# Altium footprint library PcbLib1.PcbLib: 24 footprints (part 2 of 2)
Each footprint in its own frame and in the unit in brackets; x right, y up, seen from the top. Pads: shape width x height; smd on the part's side, far side on the other; paste and mask are expansions set on the pad; w line width, h text height; cw(c..) or ccw(c..) is an arc to the next point about the centre after c.
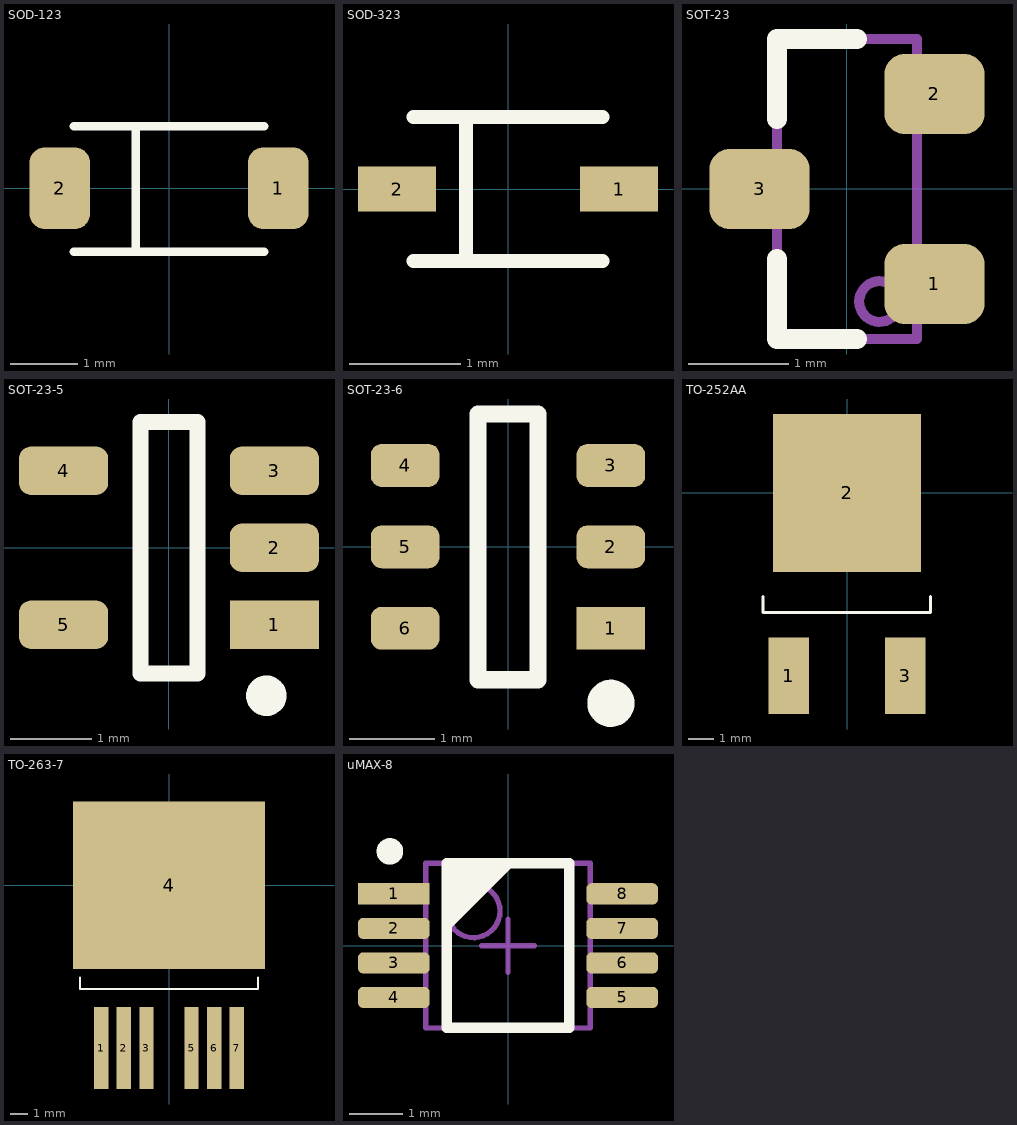
[diagram p1: the footprints below, top view; thin cyan lines are the x and y axes]

## SOD-123 [mm]
pads (2):
  rrect50% 0.91x1.22 smd mask+0.05: 1(1.635,0) 2(-1.635,0)
Top Overlay:
  lines w0.127: -1.425,-0.95 1.425,-0.95 ; -1.425,0.925 1.425,0.925 ; -0.5,-0.925 -0.5,0.9
3D body "MMSZ5226B-7-F--3DModel-STEP-1.STEP": height 1.44, standoff -0.01, extent -1.85,-0.775 1.85,0.775

## SOD-323 [mm]
height 1.1
pads (2):
  rect 0.701x0.403 smd mask+0.05: 1(1,0)
  rect 0.703x0.401 smd mask+0.05: 2(-1,0)
Top Overlay:
  lines w0.127: -0.85,-0.65 0.85,-0.65 ; -0.85,0.65 0.85,0.65 ; -0.377,-0.65 -0.377,0.65
3D body "SC-76.stp": height 1.1, standoff 0, extent -1.35,-0.725 1.35,0.725

## SOT-23 [mm]
height 1.2
pads (3):
  rrect50% 1x0.8 smd mask+0.05: 1(0.875,-0.95) 2(0.875,0.95) 3(-0.875,0)
Top Overlay:
  lines w0.2: -0.7,-0.7 -0.7,-1.5 0.1,-1.5 ; -0.7,0.7 -0.7,1.5 0.1,1.5
Mechanical 13:
  lines w0.1: 0.523,-1.169 cw(c0.325,-1.125) 0.526,-1.153 ; -0.7,-1.5 0.7,-1.5 0.7,1.5 -0.7,1.5 -0.7,-1.5
3D body "TO-236AB.stp": height 1.1, standoff 0, extent -1.275,-1.5 1.325,1.5

## SOT-23-5 [mm]
height 1.45
pads (5):
  rect 1.1x0.6 smd mask+0.05: 1(1.3,-0.95)
  rrect50% 1.1x0.6 smd mask+0.05: 2(1.3,0) 3(1.3,0.95) 4(-1.3,0.95) 5(-1.3,-0.95)
Top Overlay:
  circle w0.25: c1.2,-1.825 r0.125
  lines w0.2: -0.35,-1.55 -0.35,1.55 0.35,1.55 0.35,-1.55 -0.35,-1.55
3D body "SC-74A.stp": height 1.45, standoff 0, extent -1.6,-1.55 1.6,1.55

## SOT-23-6 [mm]
height 1.45
pads (6):
  rect 0.8x0.5 smd mask+0.05: 1(1.2,-0.95)
  rrect50% 0.8x0.5 smd mask+0.05: 2(1.2,0) 3(1.2,0.95) 4(-1.2,0.95) 5(-1.2,0) 6(-1.2,-0.95)
Top Overlay:
  circle w0.3: c1.2,-1.825 r0.125
  lines w0.2: -0.35,-1.55 -0.35,1.55 0.35,1.55 0.35,-1.55 -0.35,-1.55
3D body "SC-74-6.stp": height 1.14, standoff 0.04, extent -1.3,-1.45 1.3,1.45

## TO-252AA [mm] "D-PAK"
height 2.38
pads (3):
  rect 1.6x3 smd: 1(-2.286,-7.18) 3(2.286,-7.18)
  rect 5.8x6.2 smd: 2(0,0)
Top Overlay:
  lines w0.127: -3.3,-4.064 -3.3,-4.697 3.28,-4.697 3.28,-4.064
3D body "User Library-TO252AA.STEP": height 2.3, standoff -0.01, extent -3.3,-7.1 3.28,2.6

## TO-263-7 [mm]
pads (7):
  rect 0.8x4.6 smd: 1(-3.81,-9.15) 2(-2.54,-9.15) 3(-1.27,-9.15) 5(1.27,-9.15) 6(2.54,-9.15) 7(3.81,-9.15)
  rect 10.8x9.4 smd: 4(0,0)
Top Overlay:
  lines w0.127: -5,-5.207 -5,-5.84 5,-5.84 5,-5.207
3D body "TO263-7-1.stp": height 4.22, standoff 0, extent -4.911,-10.709 4.911,4.342

## uMAX-8 [mm]
height 1.1
pads (8):
  rect 1.35x0.4 smd mask+0.05: 1(-2.15,0.975)
  rrect50% 1.35x0.4 smd mask+0.05: 2(-2.15,0.325) 3(-2.15,-0.325) 4(-2.15,-0.975) 5(2.15,-0.975) 6(2.15,-0.325) 7(2.15,0.325) 8(2.15,0.975)
Top Overlay:
  circle w0.25: c-2.225,1.775 r0.125
  region: -1.15,0.25 -1.15,1.55 0.15,1.55
  lines w0.2: -1.15,-1.55 1.15,-1.55 1.15,1.55 -1.15,1.55 -1.15,-1.55
Top Assembly:
  circle w0.1: c-0.65,0.65 r0.5
  lines w0.1: -1.55,-1.55 1.55,-1.55 1.55,1.55 -1.55,1.55 -1.55,-1.55
Top Courtyard:
  lines w0.1: -0.5,0 0.5,0 ; 0,-0.5 0,0.5
3D body "TSOP65P490X110-8N.step": height 1.1, standoff 0, extent -2.452,-1.55 2.453,1.55